# Altium footprint library VaneControl_v3.PcbLib: 41 footprints (part 3 of 3)
Each footprint in its own frame and in the unit in brackets; x right, y up, seen from the top. Pads: shape width x height; smd on the part's side, far side on the other; paste and mask are expansions set on the pad; w line width, h text height; cw(c..) or ccw(c..) is an arc to the next point about the centre after c.
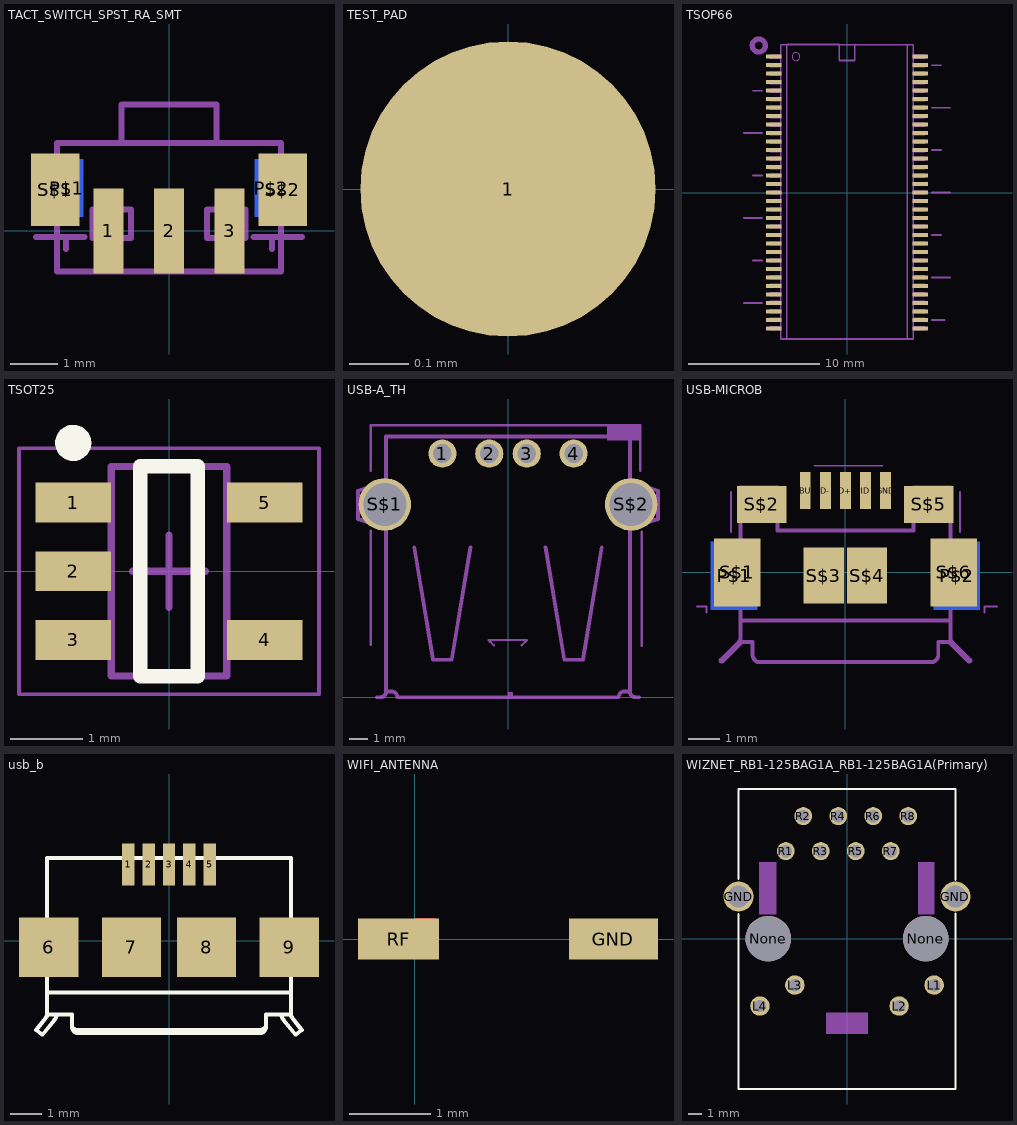
[diagram p2: the footprints below, top view; thin cyan lines are the x and y axes]

## TACT_SWITCH_SPST_RA_SMT [mil]
pads (7):
  rect 25x70 smd: 1(-50,0) 2(0,0) 3(50,0)
  rect 27.56x47.24 smd far side: P$1(-84.65,35.43) P$2(84.65,35.43)
  rect 40x60 smd: S$1(-93.94,33.94) S$2(93.94,33.94)
Top Layer:
  region: 0,0 10,0 10,10 0,10
  region: 0,0 10,0 10,10 0,10
Drill Guide:
  lines w0: -91.06,24.84 ccw(c-83.03,24.84) -83.03,16.81 ccw(c-83.03,24.84) -75,24.84 -75,37.87 -75,45 ccw(c-83.03,45) -83.03,53.03 ccw(c-83.03,45) -91.06,45 -91.06,37.87 -91.06,24.84 ; 76.97,24.84 ccw(c85,24.84) 85,16.81 ccw(c85,22.87) 91.06,22.87 91.06,37.87 91.06,45 ccw(c84.02,45.98) 85,53.03 ccw(c85,45) 76.97,45 76.97,37.87 76.97,24.84
Mechanical 8:
  lines w5: -39.37,72.83 -39.37,104.33 39.37,104.33 39.37,72.83 ; -39.37,72.83 39.37,72.83 ; -39.37,72.83 -92.52,72.83 -92.52,-33.46 92.52,-33.46 92.52,72.83 39.37,72.83 ; -62.99,-5.91 -31.5,-5.91 -31.5,17.72 -62.99,17.72 -62.99,-5.91 ; 31.5,-5.91 62.99,-5.91 62.99,17.72 31.5,17.72 31.5,-5.91
Mechanical 22:
  lines w5: -110,-5 -85,-5 ; -85,-15 -85,-5 ; -70,-5 -85,-5 ; 70,-5 85,-5 ; 85,-15 85,-5 ; 110,-5 85,-5

## TEST_PAD [mm]
pads (1):
  rrect100% 0.5x0.5 smd: 1(0,0)

## TSOP66 [mm]
pads (66):
  rect 1.2x0.3 smd: 1(-5.6,10.4) 2(-5.6,9.75) 3(-5.6,9.1) 4(-5.6,8.45) 5(-5.6,7.8) 6(-5.6,7.15) 7(-5.6,6.5) 8(-5.6,5.85) 9(-5.6,5.2) 10(-5.6,4.55) 11(-5.6,3.9) 12(-5.6,3.25) 13(-5.6,2.6) 14(-5.6,1.95) 15(-5.6,1.3) 16(-5.6,0.65) 17(-5.6,0) 18(-5.6,-0.65) 19(-5.6,-1.3) 20(-5.6,-1.95) 21(-5.6,-2.6) 22(-5.6,-3.25) 23(-5.6,-3.9) 24(-5.6,-4.55) 25(-5.6,-5.2) 26(-5.6,-5.85) 27(-5.6,-6.5) 28(-5.6,-7.15) 29(-5.6,-7.8) 30(-5.6,-8.45) 31(-5.6,-9.1) 32(-5.6,-9.75) 33(-5.6,-10.4) 34(5.6,-10.4) 35(5.6,-9.75) 36(5.6,-9.1) 37(5.6,-8.45) 38(5.6,-7.8) 39(5.6,-7.15) 40(5.6,-6.5) 41(5.6,-5.85) 42(5.6,-5.2) 43(5.6,-4.55) 44(5.6,-3.9) 45(5.6,-3.25) 46(5.6,-2.6) 47(5.6,-1.95) 48(5.6,-1.3) 49(5.6,-0.65) 50(5.6,0) 51(5.6,0.65) 52(5.6,1.3) 53(5.6,1.95) 54(5.6,2.6) 55(5.6,3.25) 56(5.6,3.9) 57(5.6,4.55) 58(5.6,5.2) 59(5.6,5.85) 60(5.6,6.5) 61(5.6,7.15) 62(5.6,7.8) 63(5.6,8.45) 64(5.6,9.1) 65(5.6,9.75) 66(5.6,10.4)
Mechanical 8:
  drawing of 71 lines, arcs and shapes, not listed
Mechanical 22:
  circle w0.4: c-6.75,11.25 r0.5
  lines w0.127: -7.9,-8.45 -6.5,-8.45 ; -7.9,-1.95 -6.5,-1.95 ; -7.9,4.55 -6.5,4.55 ; -7.2,-5.2 -6.5,-5.2 ; -7.2,1.3 -6.5,1.3 ; -7.2,7.8 -6.5,7.8 ; 6.5,-9.75 7.475,-9.75 ; 6.5,-6.5 7.9,-6.5 ; 6.5,-3.25 7.2,-3.25 ; 6.5,0 7.9,0 ; 6.5,3.25 7.2,3.25 ; 6.5,6.5 7.9,6.5 ; 6.5,9.75 7.2,9.75 ; -4.6,-11.2 -4.6,11.35 -0.6,11.35 -0.6,10.1 0.6,10.1 0.6,11.3 4.6,11.3 4.6,-11.2 -4.6,-11.2

## TSOT25 [mm] "SOT23, 5-Leads, Body 2,90x2,80mm, Pitch 0,95mm, IPC Medium Density"
height 1
pads (5):
  rect 1.05x0.55 smd: 1(-1.325,0.95) 2(-1.325,0) 3(-1.325,-0.95) 4(1.325,-0.95) 5(1.325,0.95)
Top Overlay:
  circle w0.25: c-1.325,1.775 r0.125
  lines w0.2: -0.4,-1.45 0.4,-1.45 0.4,1.45 -0.4,1.45 -0.4,-1.45
Mechanical 13:
  lines w0.1: -0.8,-1.45 -0.8,1.45 0.8,1.45 0.8,-1.45 -0.8,-1.45
Mechanical 15:
  lines w0.05: -2.075,-1.7 -2.075,1.7 2.075,1.7 2.075,-1.7 -2.075,-1.7
  lines w0.1: -0.5,0 0.5,0 ; 0,-0.5 0,0.5
3D body: height 1, standoff 0.1, extent -0.8,-1.45 0.8,1.45

## USB-A_TH [mm]
pads (6):
  round 1.5 / inner round 1.524 / far side round 1.5 hole 1: 1(-3.5,12.99) 2(-1,12.99) 3(1,12.99) 4(3.5,12.99)
  round 2.8 / inner round 1.524 / far side round 2.8 hole 2.3: S$1(-6.57,10.28) S$2(6.57,10.28)
Mechanical 8:
  lines w0.203: -7,0 -6.8,0 ccw(c-6.8,0.3) -6.5,0.3 ; -5,8 -4,2 -3,2 -2,8 ; 2,8 3,2 4,2 5,8 ; 7,0 6.8,0 cw(c6.8,0.3) 6.5,0.3 ; -6.5,0.3 -6.5,9 ; -6.5,0.3 -6.2,0.3 cw(c-6.2,0) -5.9,0 5.9,0 cw(c6.2,0) 6.2,0.3 6.5,0.3 ; -6.5,0.3 -6.5,0.3 ; -6.5,9 -8,9.5 -8,11 -6.5,11.5 ; -6.5,9 -6.5,11.5 ; -6.5,11.5 -6.5,13.9 6.5,13.9 6.5,11.5 ; 6.5,0.3 6.5,9 ; 6.5,9 8,9.5 8,11 6.5,11.5 ; 6.5,9 6.5,11.5
Mechanical 22:
  region: 0,0 0.254,0 0.254,0.254 0,0.254
  region: 5.3,13.7 5.3,14.5 7,14.5 7,13.7
  lines w0.127: -7.32,2.794 -7.32,8.89 ; -7.32,12.065 -7.32,14.505 7.052,14.505 7.052,12.065 ; -0.762,2.767 -1.043,3.048 1.016,3.048 0.735,2.767 ; 7.132,2.734 7.132,8.83

## USB-MICROB [mm]
pads (13):
  rect 0.35x1.2 smd: D+(0,2.65) D-(-0.65,2.65) GND(1.3,2.65) ID(0.65,2.65) VBUS(-1.3,2.65)
  rect 1.5x2.2 smd far side: P$1(-3.6,-0.1) P$2(3.6,-0.1)
  rect 1.5x2.2 smd: S$1(-3.5,0) S$6(3.5,0)
  rect 1.6x1.2 smd: S$2(-2.7,2.2) S$5(2.7,2.2)
  rect 1.3x1.8 smd: S$3(-0.7,-0.1) S$4(0.7,-0.1)
Drill Guide:
  lines w0: -3.75,-0.4 ccw(c-3.5,-0.4) -3.5,-0.65 ccw(c-3.525,-0.425) -3.3,-0.4 -3.3,0.1 -3.3,0.3 ccw(c-3.55,0.3) -3.55,0.55 ccw(c-3.475,0.275) -3.75,0.2 -3.75,0.1 -3.75,-0.4 ; 3.3,-0.35 ccw(c3.55,-0.4) 3.5,-0.65 ccw(c3.475,-0.425) 3.7,-0.4 3.7,0.1 3.7,0.25 ccw(c3.475,0.325) 3.55,0.55 ccw(c3.55,0.3) 3.3,0.3 3.3,0 3.3,-0.35
Mechanical 8:
  lines w0.127: -3.4,-1.55 3.4,-1.55 ; -3.4,-1.55 -3.4,2.75 -2.2,2.75 -2.2,1.35 2.2,1.35 2.2,2.75 3.4,2.75 3.4,-1.55 ; -3.4,-1.55 -3.4,-2.25 -3,-2.25 -3,-2.65 ccw(c-2.763,-2.665) -2.8,-2.9 2.75,-2.9 ccw(c2.765,-2.663) 3,-2.7 3,-2.25 3.4,-2.25 3.4,-1.55
  lines w0.203: -4,-2.85 -3.4,-2.25 ; 3.4,-2.25 4,-2.85
Mechanical 22:
  lines w0.063: -4.8,-1.1 -4.5,-1.1 -4.5,-1.3 ; -3.7,1.3 -3.7,2.6 ; -1,3.45 1.2,3.45 ; 3.7,1.3 3.7,2.6 ; 4.5,-1.3 4.5,-1.1 4.9,-1.1

## usb_b [mm]
pads (9):
  rect 0.4x1.35 smd: 1(-1.3,2.449) 2(-0.65,2.449) 3(0,2.449) 4(0.65,2.449) 5(1.3,2.449)
  rect 1.9x1.9 smd: 6(-3.85,-0.201) 7(-1.2,-0.201) 8(1.2,-0.201) 9(3.85,-0.201)
Top Overlay:
  lines w0.127: -4.25,-2.851 -3.931,-2.441 ; -4.25,-2.851 -4.05,-3.001 ; -4.25,-2.851 -3.931,-2.441 ; -4.25,-2.851 -4.05,-3.001 ; -4.05,-3.001 -3.657,-2.521 -4.05,-3.001 ; -3.931,-2.441 ccw(c-4.046,-2.351) -3.9,-2.351 ; -3.931,-2.441 ccw(c-4.046,-2.351) -3.9,-2.351 ; -3.9,-2.351 -3.6,-2.351 ; -3.9,-2.351 -3.6,-2.351 ; -3.9,-2.351 -3.9,2.649 ; -3.9,-2.351 -3.9,2.649 ; -3.9,2.649 3.9,2.649 ; -3.9,2.649 3.9,2.649 ; -3.6,-2.36 cw(c-3.854,-2.36) -3.657,-2.52 ccw(c-3.854,-2.36) -3.6,-2.36 ; -3.6,-2.36 -3.6,-2.351 ; -3.6,-2.36 -3.6,-2.351 ; -3.6,-2.351 -3.1,-2.351 ; -3.6,-2.351 -3.1,-2.351 ; -3.1,-2.751 ccw(c-2.9,-2.751) -2.9,-2.951 ; -3.1,-2.751 ccw(c-2.9,-2.751) -2.9,-2.951 ; -3.1,-2.751 -3.1,-2.351 ; -3.1,-2.751 -3.1,-2.351 ; -2.9,-2.951 2.9,-2.951 ; -2.9,-2.951 2.9,-2.951 ; 2.9,-2.951 ccw(c2.9,-2.751) 3.1,-2.751 ; 2.9,-2.951 ccw(c2.9,-2.751) 3.1,-2.751 ; 2.9,-2.851 ccw(c2.9,-2.601) 3.1,-2.751 ; 2.9,-2.851 ccw(c2.9,-2.601) 3.1,-2.751 ; 2.9,-2.851 -2.9,-2.851 2.9,-2.851 ; 3.1,-2.751 3.1,-2.351 ; 3.1,-2.751 3.1,-2.351 ; 3.1,-2.351 3.9,-2.351 ; 3.1,-2.351 3.9,-2.351 ; 3.6,-2.36 ccw(c3.854,-2.36) 3.657,-2.52 cw(c3.854,-2.36) 3.6,-2.36 ; 3.6,-2.36 3.6,-2.351 3.6,-2.36 ; 3.9,-2.351 ccw(c4.046,-2.351) 3.931,-2.441 ; 3.9,-2.351 ccw(c4.046,-2.351) 3.931,-2.441 ; 3.9,-2.351 3.9,2.649 ; 3.9,-2.351 3.9,2.649 ; 3.931,-2.441 4.25,-2.851 ; 3.931,-2.441 4.25,-2.851 ; 4.05,-3.001 3.657,-2.521 4.05,-3.001 ; 4.05,-3.001 4.25,-2.851 ; 4.05,-3.001 4.25,-2.851 ; -3.85,-1.651 3.85,-1.651 -3.85,-1.651 ; -3.1,-2.752 ccw(c-2.925,-2.651) -2.9,-2.851 cw(c-2.925,-2.651) -3.1,-2.752
3D body "USB_B.stp": height 2.75, standoff -0.25, extent -3.956,-2.951 3.956,2.71

## WIFI_ANTENNA [mm]
pads (2):
  rect 1.1x0.5 smd paste+0 mask+0: GND(2.45,0)
  rect 1x0.5 smd paste+0 mask+0: RF(-0.2,0)
Top Layer:
  region: 0,0 0.254,0 0.254,0.254 0,0.254
Top Solder:
  region: 0,0 0.254,0 0.254,0.254 0,0.254

## WIZNET_RB1-125BAG1A_RB1-125BAG1A(Primary) [mm]
pads (16):
  round 2.184 hole 1.6: GND(-7.876,3.049) GND(7.874,3.049)
  round 1.408 hole 0.9: L1(6.325,-3.38) L2(3.784,-4.899) L3(-3.786,-3.379) L4(-6.325,-4.9)
  round 3.3 hole 3.3 unplated: None(-5.716,-0.001) None(5.714,-0.001)
  round 1.3 hole 0.9: R1(-4.446,6.349) R2(-3.176,8.889) R3(-1.906,6.349) R4(-0.636,8.889) R5(0.634,6.349) R6(1.904,8.889) R7(3.174,6.349) R8(4.444,8.889)
Top Overlay:
  lines w0.127: -7.875,1.802 -7.875,-10.922 7.875,-10.922 ; -7.875,4.318 -7.875,10.858 7.875,10.858 ; 7.875,-10.897 7.875,1.828 ; 7.875,4.248 7.875,10.788
Mechanical 1:
  region: -6.363,5.528 -5.15,5.528 -5.15,1.757 -6.363,1.757
  region: 5.157,5.528 6.348,5.528 6.348,1.756 5.157,1.756
  region: -1.501,-5.4 1.5,-5.4 1.5,-6.906 -1.501,-6.906
3D body: height 10, standoff 0.25, extent -7.874,-10.922 7.874,10.846